# Altium footprint library DFN10_3X3X9.PcbLib: 1 footprints
Each footprint in its own frame and in the unit in brackets; x right, y up, seen from the top. Pads: shape width x height; smd on the part's side, far side on the other; paste and mask are expansions set on the pad; w line width, h text height; cw(c..) or ccw(c..) is an arc to the next point about the centre after c.
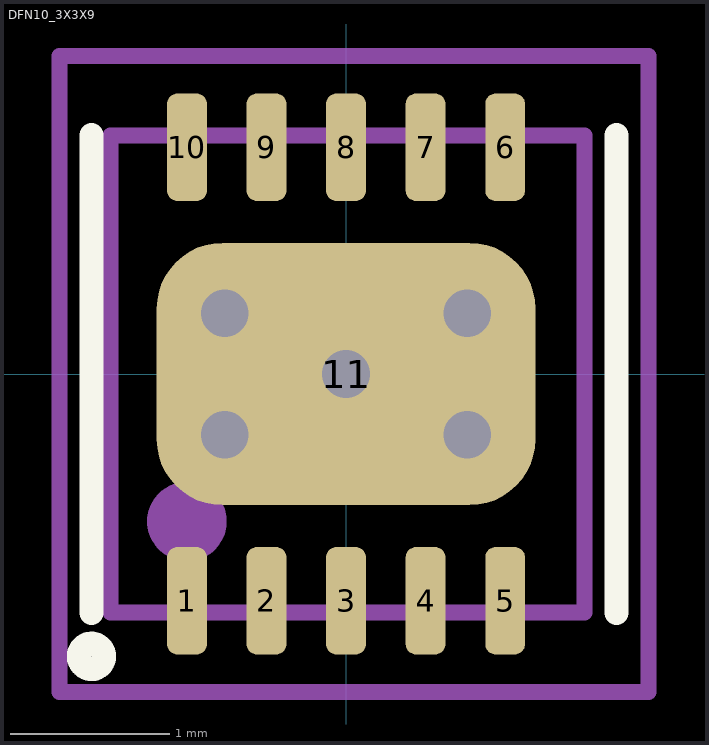
[diagram p0: the footprint, top view; thin cyan lines are the x and y axes]

## DFN10_3X3X9 [mm]
pads (11):
  rrect50% 0.25x0.675 smd mask+0.05: 1(-1,-1.425) 2(-0.5,-1.425) 3(0,-1.425) 4(0.5,-1.425) 5(1,-1.425) 6(1,1.425) 7(0.5,1.425) 8(0,1.425) 9(-0.5,1.425) 10(-1,1.425)
  rrect50% 2.38x1.65 smd paste-10 mask+0.05: 11(0,0)
via 0,0 diameter 0.6 hole 0.3
via 0.762,0.381 diameter 0.6 hole 0.3
via -0.762,0.381 diameter 0.6 hole 0.3
via -0.762,-0.381 diameter 0.6 hole 0.3
via 0.762,-0.381 diameter 0.6 hole 0.3
Top Overlay:
  circle w0.152: c-1.6,-1.775 r0.079
  lines w0.152: -1.6,-1.5 -1.6,1.5 ; 1.7,-1.5 1.7,1.5
Top Paste:
  region: -1.2,0.1
  region: -0.075,0.825 -0.075,0.075 -1.2,0.075 -1.2,0.4 -1.2,0.485 -1.135,0.641 -1.016,0.76 -0.86,0.825 -0.775,0.825
  region: 0.075,0.825 0.075,0.075 1.2,0.075 1.2,0.4 1.2,0.485 1.135,0.641 1.016,0.76 0.86,0.825 0.775,0.825
  region: -0.075,-0.825 -0.075,-0.075 -1.2,-0.075 -1.2,-0.4 -1.2,-0.485 -1.135,-0.641 -1.016,-0.76 -0.86,-0.825 -0.775,-0.825
  region: 0.075,-0.825 0.075,-0.075 1.2,-0.075 1.2,-0.4 1.2,-0.485 1.135,-0.641 1.016,-0.76 0.86,-0.825 0.775,-0.825
Top Courtyard:
  lines w0.1: -1.8,-2 -1.8,2 1.9,2 1.9,-2 -1.8,-2
Top Assembly:
  circle w0.3: c-1,-0.927 r0.1
  lines w0.1: -1.481,-1.499 -1.481,1.498 1.5,1.498 1.5,-1.499 -1.481,-1.499
  text "'.Designator'" at -1.2,0 h0.2
3D body "User Library-DFN-10.STEP": height 0.8, standoff 0, extent -1.5,-1.5 1.5,1.5